# Altium footprint library GDO.PcbLib: 3 footprints
Each footprint in its own frame and in the unit in brackets; x right, y up, seen from the top. Pads: shape width x height; smd on the part's side, far side on the other; paste and mask are expansions set on the pad; w line width, h text height; cw(c..) or ccw(c..) is an arc to the next point about the centre after c.
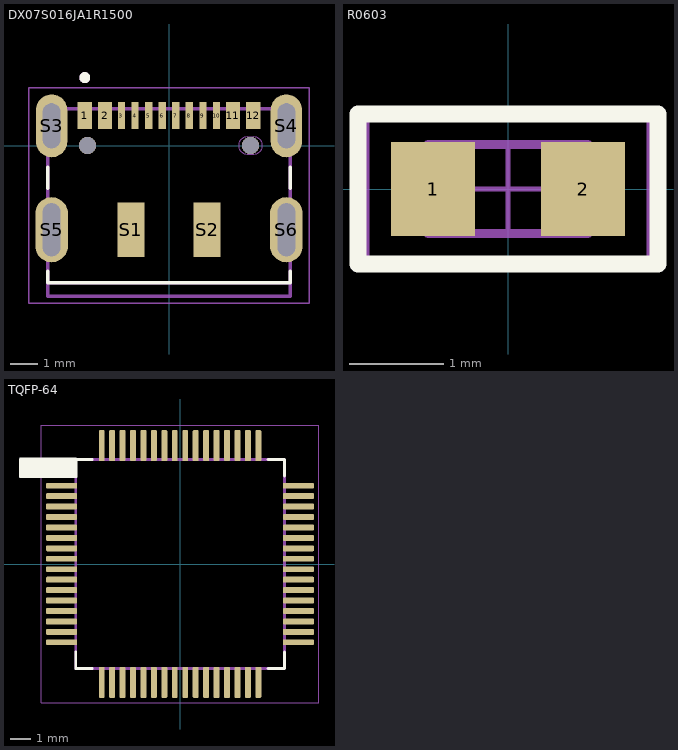
[diagram p0: the footprints below, top view; thin cyan lines are the x and y axes]

## DX07S016JA1R1500 [mm] "USBC2"
pads (21):
  rect 0.52x1 smd: 1(-3.1,1.1) 2(-2.35,1.1) 11(2.35,1.1) 12(3.1,1.1)
  rect 0.27x1 smd: 3(-1.75,1.1) 4(-1.25,1.1) 5(-0.75,1.1) 6(-0.25,1.1) 7(0.25,1.1) 8(0.75,1.1) 9(1.25,1.1) 10(1.75,1.1)
  rect 1x2 smd: S1(-1.4,-3.1) S2(1.4,-3.1)
  oval 1.158x2.316 hole 0.65 slot 1.65 at 90 deg: S3(-4.32,0.725) S4(4.32,0.725)
  oval 1.2x2.4 hole 0.65 slot 1.95 at 90 deg: S5(-4.32,-3.1) S6(4.32,-3.1)
  round 0.63 hole 0.63 unplated: ""(-3,0) ""(3,0)
  round 0.6 hole 0.6 unplated: ""(3,0)
Top Overlay:
  circle w0.2: c-3.1,2.5 r0.1
  lines w0.127: -4.47,-4.63 -4.47,-5.05 4.47,-5.05 4.47,-4.63 ; -4.47,-1.57 -4.47,-0.805 ; 4.47,-1.57 4.47,-0.805
Mechanical 1:
  lines w0: 2.56,0 ccw(c2.875,0) 2.875,-0.315 3.125,-0.315 ccw(c3.125,0) 3.44,0 ccw(c3.125,0) 3.125,0.315 2.875,0.315 ccw(c2.875,0) 2.56,0
Mechanical 13:
  circle w0.2: c-3.1,2.5 r0.1
  lines w0.127: -4.47,-5.05 -4.47,-5.55 4.47,-5.55 4.47,-5.05 ; -4.47,-5.05 -4.47,1.35 4.47,1.35 4.47,-5.05 ; -4.47,-5.05 4.47,-5.05
Mechanical 15:
  lines w0.05: -5.17,-5.8 -5.17,2.135 5.17,2.135 5.17,-5.8 -5.17,-5.8

## R0603 [mm]
height 0.6
pads (2):
  rect 0.9x1 smd: 1(-0.8,0) 2(0.8,0)
Top Overlay:
  lines w0.178: -1.6,-0.8 -1.6,0.8 1.6,0.8 1.6,-0.8 -1.6,-0.8
Top 3D Body:
  lines w0.1: -0.85,-0.475 0.85,-0.475 0.85,0.475 -0.85,0.475 -0.85,-0.475
Mechanical 15:
  lines w0.05: -0.475,0 0.475,0 ; 0,-0.475 0,0.475 ; -1.5,-0.75 1.5,-0.75 1.5,0.75 -1.5,0.75 -1.5,-0.75
3D body "SMD RESISTOR-0603.step": height 0.46, standoff 0, extent -0.8,-0.4 0.8,0.4

## TQFP-64 [mm]
pads (64):
  rrect25% 1.47x0.28 smd: 1(-5.67,3.75) 2(-5.67,3.25) 3(-5.67,2.75) 4(-5.67,2.25) 5(-5.67,1.75) 6(-5.67,1.25) 7(-5.67,0.75) 8(-5.67,0.25) 9(-5.67,-0.25) 10(-5.67,-0.75) 11(-5.67,-1.25) 12(-5.67,-1.75) 13(-5.67,-2.25) 14(-5.67,-2.75) 15(-5.67,-3.25) 16(-5.67,-3.75) 33(5.67,-3.75) 34(5.67,-3.25) 35(5.67,-2.75) 36(5.67,-2.25) 37(5.67,-1.75) 38(5.67,-1.25) 39(5.67,-0.75) 40(5.67,-0.25) 41(5.67,0.25) 42(5.67,0.75) 43(5.67,1.25) 44(5.67,1.75) 45(5.67,2.25) 46(5.67,2.75) 47(5.67,3.25) 48(5.67,3.75)
  rrect25% 0.28x1.47 smd: 17(-3.75,-5.67) 18(-3.25,-5.67) 19(-2.75,-5.67) 20(-2.25,-5.67) 21(-1.75,-5.67) 22(-1.25,-5.67) 23(-0.75,-5.67) 24(-0.25,-5.67) 25(0.25,-5.67) 26(0.75,-5.67) 27(1.25,-5.67) 28(1.75,-5.67) 29(2.25,-5.67) 30(2.75,-5.67) 31(3.25,-5.67) 32(3.75,-5.67) 49(3.75,5.67) 50(3.25,5.67) 51(2.75,5.67) 52(2.25,5.67) 53(1.75,5.67) 54(1.25,5.67) 55(0.75,5.67) 56(0.25,5.67) 57(-0.25,5.67) 58(-0.75,5.67) 59(-1.25,5.67) 60(-1.75,5.67) 61(-2.25,5.67) 62(-2.75,5.67) 63(-3.25,5.67) 64(-3.75,5.67)
Top Overlay:
  region: -7.62,4.121 -7.638,4.121 -7.671,4.134 -7.696,4.159 -7.709,4.192 -7.709,4.21 -7.709,5 -7.709,5.018 -7.696,5.051 -7.671,5.076 -7.638,5.089 -7.62,5.089 -5,5.089 -4.991,5.089 -4.974,5.086 -4.958,5.079 -4.944,5.07 -4.938,5.064 -4.21,5.064 -4.197,5.064 -4.174,5.054 -4.156,5.036 -4.146,5.013 -4.146,5 -4.146,4.987 -4.156,4.964 -4.174,4.946 -4.197,4.936 -4.21,4.936 -4.911,4.936 -4.911,4.21 -4.911,4.192 -4.924,4.159 -4.949,4.134 -4.982,4.121 -5,4.121
  lines w0.127: -5,-4.21 -5,-5 -4.21,-5 ; -5,4.21 -5,5 -4.21,5 ; 4.21,-5 5,-5 5,-4.21 ; 4.21,5 5,5 5,4.21
  lines w0.178: -7.62,4.21 -7.62,5 -5,5 -5,4.21 -7.62,4.21
Mechanical 13:
  lines w0.127: -5,-5 5,-5 5,5 -5,5 -5,-5
Mechanical 15:
  lines w0.05: -6.655,-6.655 6.655,-6.655 6.655,6.655 -6.655,6.655 -6.655,-6.655
3D body "step_temp.STEP": height 1.16, standoff -0.04, extent -6,-6 6,6